# Altium schematic symbol library SCH - ARM CORTEX - STM STM32L151C(6-8-B)TxA.SchLib: 1 symbol
Pins are listed as number, name and electrical type; pins without a type are passive.

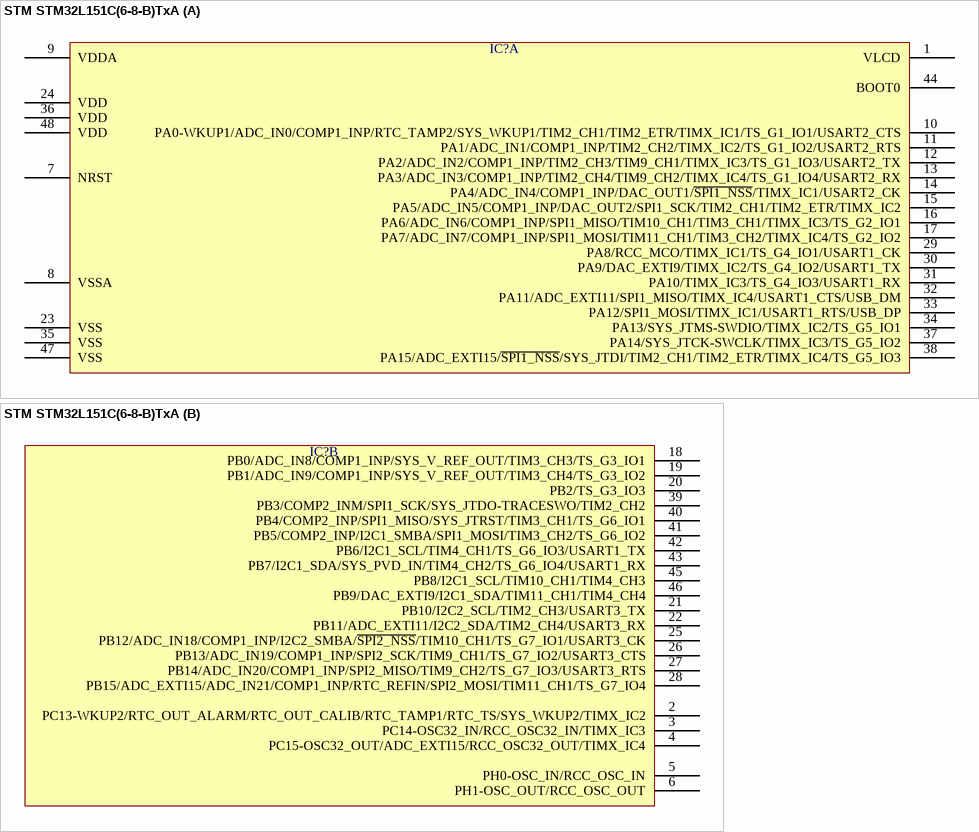
[diagram p0: symbol STM STM32L151C(6-8-B)TxA]

## STM STM32L151C(6-8-B)TxA
designator IC?  (value not drawn)
part A pins: 1 VLCD, 7 NRST, 8 VSSA, 9 VDDA, 10 PA0-WKUP1/ADC_IN0/COMP1_INP/RTC_TAMP2/SYS_WKUP1/TIM2_CH1/TIM2_ETR/TIMX_IC1/TS_G1_IO1/USART2_CTS, 11 PA1/ADC_IN1/COMP1_INP/TIM2_CH2/TIMX_IC2/TS_G1_IO2/USART2_RTS, 12 PA2/ADC_IN2/COMP1_INP/TIM2_CH3/TIM9_CH1/TIMX_IC3/TS_G1_IO3/USART2_TX, 13 PA3/ADC_IN3/COMP1_INP/TIM2_CH4/TIM9_CH2/TIMX_IC4/TS_G1_IO4/USART2_RX, 14 PA4/ADC_IN4/COMP1_INP/DAC_OUT1/~{SPI1_NSS}/TIMX_IC1/USART2_CK, 15 PA5/ADC_IN5/COMP1_INP/DAC_OUT2/SPI1_SCK/TIM2_CH1/TIM2_ETR/TIMX_IC2, 16 PA6/ADC_IN6/COMP1_INP/SPI1_MISO/TIM10_CH1/TIM3_CH1/TIMX_IC3/TS_G2_IO1, 17 PA7/ADC_IN7/COMP1_INP/SPI1_MOSI/TIM11_CH1/TIM3_CH2/TIMX_IC4/TS_G2_IO2, 23 VSS, 24 VDD, 29 PA8/RCC_MCO/TIMX_IC1/TS_G4_IO1/USART1_CK, 30 PA9/DAC_EXTI9/TIMX_IC2/TS_G4_IO2/USART1_TX, 31 PA10/TIMX_IC3/TS_G4_IO3/USART1_RX, 32 PA11/ADC_EXTI11/SPI1_MISO/TIMX_IC4/USART1_CTS/USB_DM, 33 PA12/SPI1_MOSI/TIMX_IC1/USART1_RTS/USB_DP, 34 PA13/SYS_JTMS-SWDIO/TIMX_IC2/TS_G5_IO1, 35 VSS, 36 VDD, 37 PA14/SYS_JTCK-SWCLK/TIMX_IC3/TS_G5_IO2, 38 PA15/ADC_EXTI15/~{SPI1_NSS}/SYS_JTDI/TIM2_CH1/TIM2_ETR/TIMX_IC4/TS_G5_IO3, 44 BOOT0, 47 VSS, 48 VDD
part B pins: 2 PC13-WKUP2/RTC_OUT_ALARM/RTC_OUT_CALIB/RTC_TAMP1/RTC_TS/SYS_WKUP2/TIMX_IC2, 3 PC14-OSC32_IN/RCC_OSC32_IN/TIMX_IC3, 4 PC15-OSC32_OUT/ADC_EXTI15/RCC_OSC32_OUT/TIMX_IC4, 5 PH0-OSC_IN/RCC_OSC_IN, 6 PH1-OSC_OUT/RCC_OSC_OUT, 18 PB0/ADC_IN8/COMP1_INP/SYS_V_REF_OUT/TIM3_CH3/TS_G3_IO1, 19 PB1/ADC_IN9/COMP1_INP/SYS_V_REF_OUT/TIM3_CH4/TS_G3_IO2, 20 PB2/TS_G3_IO3, 21 PB10/I2C2_SCL/TIM2_CH3/USART3_TX, 22 PB11/ADC_EXTI11/I2C2_SDA/TIM2_CH4/USART3_RX, 25 PB12/ADC_IN18/COMP1_INP/I2C2_SMBA/~{SPI2_NSS}/TIM10_CH1/TS_G7_IO1/USART3_CK, 26 PB13/ADC_IN19/COMP1_INP/SPI2_SCK/TIM9_CH1/TS_G7_IO2/USART3_CTS, 27 PB14/ADC_IN20/COMP1_INP/SPI2_MISO/TIM9_CH2/TS_G7_IO3/USART3_RTS, 28 PB15/ADC_EXTI15/ADC_IN21/COMP1_INP/RTC_REFIN/SPI2_MOSI/TIM11_CH1/TS_G7_IO4, 39 PB3/COMP2_INM/SPI1_SCK/SYS_JTDO-TRACESWO/TIM2_CH2, 40 PB4/COMP2_INP/SPI1_MISO/SYS_JTRST/TIM3_CH1/TS_G6_IO1, 41 PB5/COMP2_INP/I2C1_SMBA/SPI1_MOSI/TIM3_CH2/TS_G6_IO2, 42 PB6/I2C1_SCL/TIM4_CH1/TS_G6_IO3/USART1_TX, 43 PB7/I2C1_SDA/SYS_PVD_IN/TIM4_CH2/TS_G6_IO4/USART1_RX, 45 PB8/I2C1_SCL/TIM10_CH1/TIM4_CH3, 46 PB9/DAC_EXTI9/I2C1_SDA/TIM11_CH1/TIM4_CH4